# EAGLE library part FTR-F1R (library omcRelais)
Fujitsu FTR-F1 R Series - 2 Poles 8A Low Profile Type DPST/DPDT 8A P=225mW Low profile power relay (height 15.5 mm) employing unique construction Insulation distance: 8mm dielectric strength: 5kV surge strength: 10kV UL, CSA, VDE recognized Datasheet Fujitsu <https://www.fujitsu.com/downloads/MICRO/fcai/relays/ftr-f1r.pdf> Reichelt <https://cdn-reichelt.de/documents/datenblatt/C300/Relais-FTR-F1-8A.pdf>
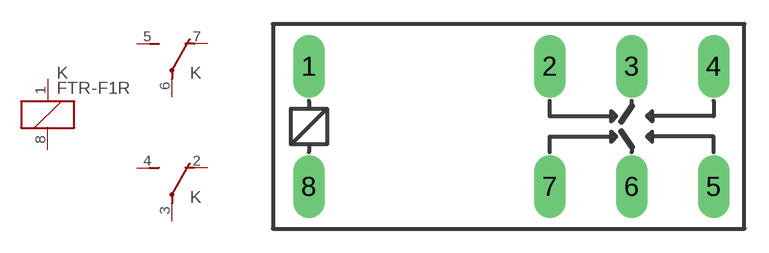
[diagram p1: symbol with the pads of THT_7M5M_20MM_5MM; footprint THT_7M5M_20MM_5MM]

Designator prefix K; gates G$1=K G$2=U G$3=U

## FTR-F1R-12VDC-8A (DIST#REICHELT#: FTR F1CL012R; VALUE: FTR F1 12V), FTR-F1R-24VDC-8A (DIST#REICHELT#: FTR F1CL024R; VALUE: FTR F1 24V)  [THT_7M5M_20MM_5MM]
1  G$1:1  pas
2  G$3:O  pas
3  G$3:P  pas
4  G$3:S  pas
5  G$2:S  pas
6  G$2:P  pas
7  G$2:O  pas
8  G$1:2  pas

## Footprint THT_7M5M_20MM_5MM (pad centres in mm)
THT Relay Mechanical: row switch-over contact-to-contact distance: 5mm row midle switch-over contact-to-coil distance: 20mm row to row distance: 7.5mm Electrical: Terminal: 8 Change-over contacts: 2 Used by: Omron: G2RL-2 (-HA), G2R-24 Fujitsu: FTR-F1
drill 1.3 pad 1.93 long: 1 2.223,10.081; 2 17.145,10.081; 3 22.225,10.081; 4 27.305,10.081; 5 27.305,2.619; 6 22.225,2.619; 7 17.145,2.619; 8 2.223,2.619